# EAGLE library part NE555 (library IC)
General Purpose Single Bipolar Timers
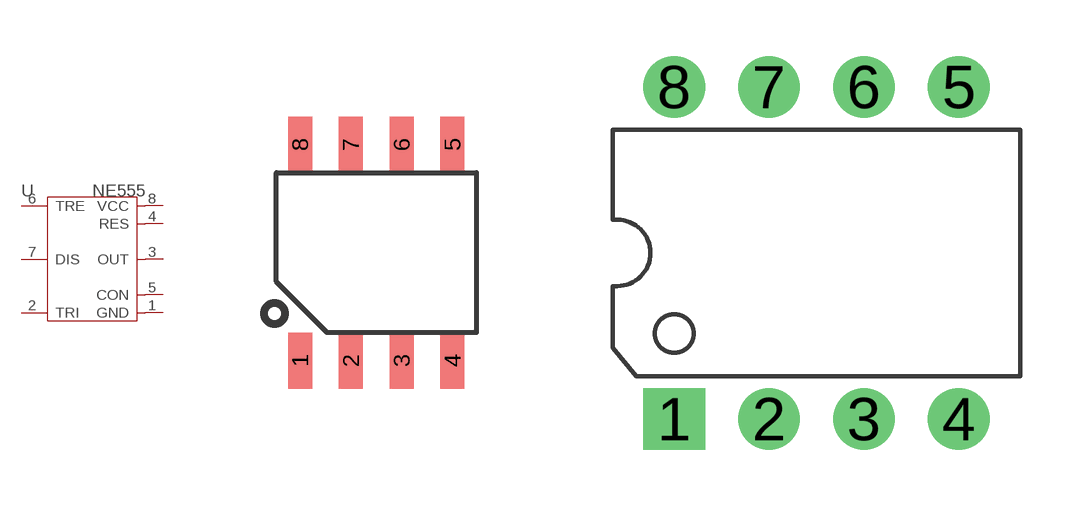
[diagram p54: symbol with the pads of SOIC8-6.0; footprints SOIC8-6.0, DIP8]

Designator prefix U

## NE555D  [SOIC8-6.0]
1  GND
2  TRI
3  OUT
4  RES
5  CON
6  TRE
7  DIS
8  VCC

## NE555'DIP8'  [DIP8]
Pads as for SOIC8-6.0

## NE555'LMC555'  [MSOP8]
Pads as for SOIC8-6.0

## NE555'TS555IPT'  [TSSOP8]
Pads as for SOIC8-6.0

## Footprint SOIC8-6.0 (pad centres in mm)
smd 0.6 x 1.4: 1 -1.905,-2.7; 2 -0.635,-2.7; 3 0.635,-2.7; 4 1.905,-2.7; 5 1.905,2.7; 6 0.635,2.7; 7 -0.635,2.7; 8 -1.905,2.7

## Footprint DIP8 (pad centres in mm)
drill 0.889 pad 1.651 square: 1 -3.81,-4.445
drill 0.889 pad 1.651: 2 -1.27,-4.445; 3 1.27,-4.445; 4 3.81,-4.445; 5 3.81,4.445; 6 1.27,4.445; 7 -1.27,4.445; 8 -3.81,4.445

## Footprint MSOP8 (pad centres in mm)
8M, 8-Lead, 0.118" Wide, Miniature Small Outline Package MSOP 8M-Package doc1097.pdf
smd 0.4 x 1.1: 1 -0.975,-2.35; 2 -0.325,-2.35; 3 0.325,-2.35; 4 0.975,-2.35; 5 0.975,2.35; 6 0.325,2.35; 7 -0.325,2.35; 8 -0.975,2.35

## Footprint TSSOP8 (pad centres in mm)
smd 0.3 x 1: 1 -0.975,-2.95; 2 -0.325,-2.95; 3 0.325,-2.95; 4 0.975,-2.95; 5 0.975,2.95; 6 0.325,2.95; 7 -0.325,2.95; 8 -0.975,2.95